# Altium footprint library SensorNode.PcbLib: 7 footprints
Each footprint in its own frame and in the unit in brackets; x right, y up, seen from the top. Pads: shape width x height; smd on the part's side, far side on the other; paste and mask are expansions set on the pad; w line width, h text height; cw(c..) or ccw(c..) is an arc to the next point about the centre after c.
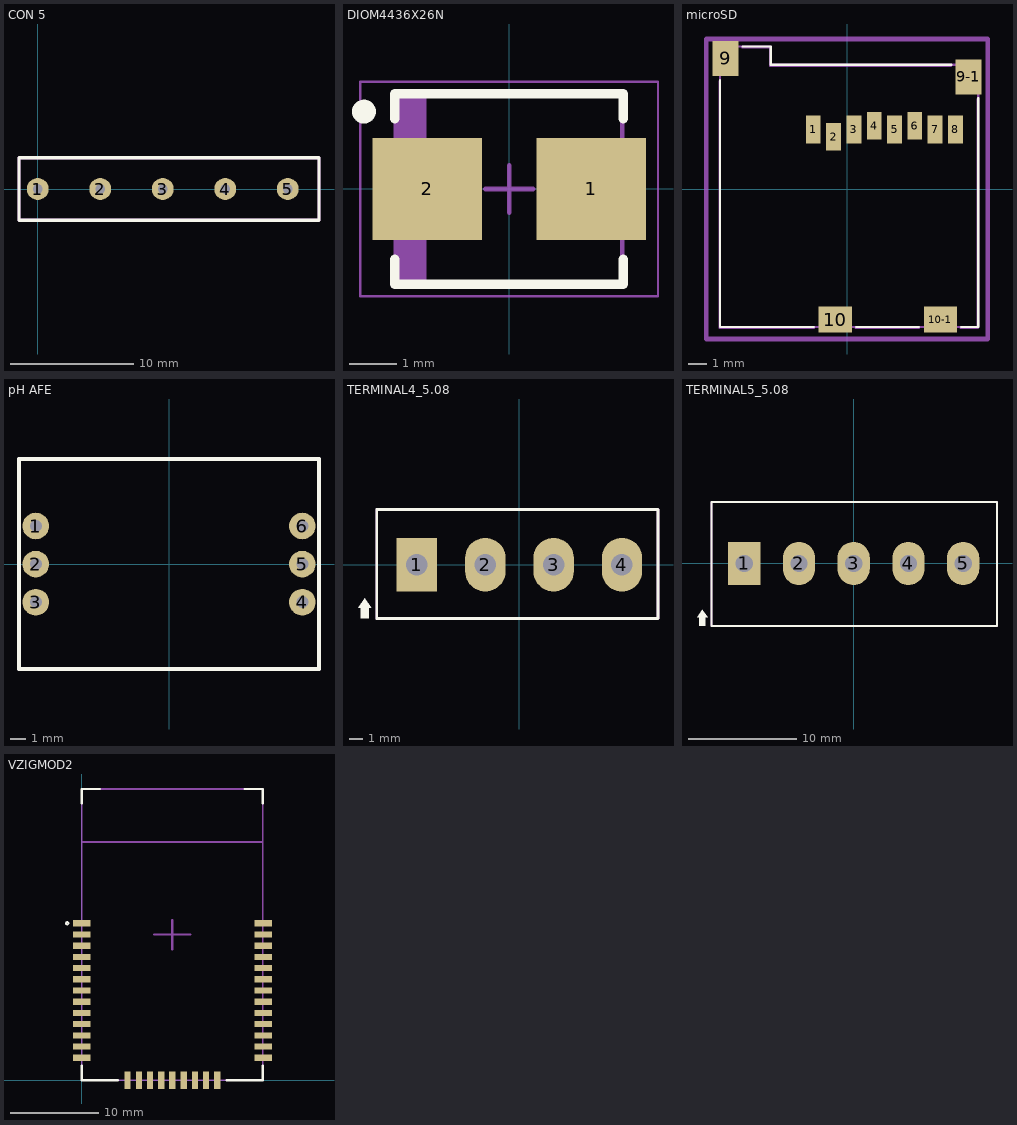
[diagram p0: the footprints below, top view; thin cyan lines are the x and y axes]

## CON 5 [mil]
pads (5):
  round 70 hole 31.5: 1(0,0) 2(200,0) 3(400,0) 4(600,0) 5(800,0)
Top Overlay:
  lines w10: -60,-100 900,-100 900,100 -60,100 -60,-100
Mechanical 29:
  lines w10: -60,-100 900,-100 900,100 -60,100 -60,-100
  text ".Designator" at 180,40 h39.37

## DIOM4436X26N [mm] "Molded Diode, 2-Leads, Body 4.40x3.62mm, IPC Medium Density"
height 2.61
pads (2):
  rect 2.3x2.15 smd: 1(1.725,0) 2(-1.725,0)
Top Overlay:
  circle w0.25: c-3.05,1.625 r0.125
  lines w0.2: -2.4,-1.475 -2.4,-2 2.4,-2 2.4,-1.475 ; -2.4,1.475 -2.4,2 2.4,2 2.4,1.475
Mechanical 13:
  rectangle: -2.375,-1.97 -1.736,1.97
  lines w0.1: -2.375,-1.97 2.375,-1.97 2.375,1.97 -2.375,1.97 -2.375,-1.97
Mechanical 15:
  lines w0.05: -3.125,-2.25 -3.125,2.25 3.125,2.25 3.125,-2.25 -3.125,-2.25
  lines w0.1: -0.5,0 0.5,0 ; 0,-0.5 0,0.5
Mechanical 29:
  lines w0.1: -2.375,-1.97 -2.375,1.97 2.375,1.97 2.375,-1.97 -2.375,-1.97
  text "'.Designator'" at -1.229,-0.368 h0.76
3D body "DIOM4436X26N.step": height 2.61, standoff 0, extent -2.595,-1.97 2.595,1.97

## microSD [mm]
pads (12):
  rect 0.8x1.5 smd: 1(-1.825,3.225) 2(-0.725,2.825) 3(0.375,3.225) 4(1.475,3.425) 5(2.575,3.225) 6(3.675,3.425) 7(4.775,3.225) 8(5.875,3.225)
  rect 1.4x1.9 smd: 9(-6.575,7.075) 9-1(6.575,6.075)
  rect 1.8x1.4 smd: 10(-0.635,-7.075) 10-1(5.065,-7.075)
Top Overlay:
  lines w0.127: -6.885,5.885 -6.885,-7.475 -1.785,-7.475 ; -5.645,7.725 -4.125,7.725 -4.125,6.725 5.645,6.725 ; 0.505,-7.475 3.905,-7.475 ; 6.175,-7.475 7.115,-7.475 7.115,4.915
Mechanical 1:
  lines w0.127: 7.075,6.725 -4.125,6.725 -4.125,7.725 -6.885,7.725 -6.885,-7.475 7.115,-7.475 7.115,6.725
Mechanical 16:
  lines w0.127: -6.91,5.836 -6.91,-7.524 -1.81,-7.524 ; -5.67,7.676 -4.15,7.676 -4.15,6.676 5.62,6.676 ; 0.48,-7.524 3.88,-7.524 ; 6.15,-7.524 7.09,-7.524 7.09,4.866
Mechanical 29:
  lines w0.254: -7.62,-8.128 -7.62,8.128 7.62,8.128 7.62,-8.128 -7.62,-8.128
  text ".Designator" at -5.08,-1.016 h1
3D body "User Library-693071010811.STEP": height 1.83, standoff -0.07, extent -6.81,-7.511 7.19,7.689

## pH AFE [mil]
pads (6):
  round 70 hole 31.5: 1(-350,100) 2(-350,0) 3(-350,-100) 4(350,-100) 5(350,0) 6(350,100)
Top Overlay:
  lines w10: -393.7,-275.59 -393.7,275.59 393.7,275.59 393.7,-275.59 -393.7,-275.59
Mechanical 29:
  lines w10: -394,-275 393.4,-275 393.4,276.18 -394,276.18 -394,-275
  text ".Designator" at -226,-35 h39.37
3D body: height 78.74, standoff 0, extent -394,-275 393.4,276.18

## TERMINAL4_5.08 [mm]
pads (4):
  rect 3x4 hole 1.6: 1(-7.62,0)
  oval 3x4 hole 1.6: 2(-2.54,0) 3(2.54,0) 4(7.62,0)
Top Overlay:
  rectangle: -11.8,-4 -11.2,-3.2
  region: -12,-3.2 -11,-3.2 -11.5,-2.5
  lines w0.203: -10.6,-4 -10.6,4.1 10.3,4.1 10.3,-4 -10.6,-4
Mechanical 29:
  lines w0.203: -10.6,-4 -10.6,4.1 10.3,4.1 10.3,-4 -10.6,-4
  text "'.Designator'" at -5.6,-2.5 h1.52
3D body "17430.stp": height 10, standoff -3.5, extent -10.645,-4 10.245,4.1

## TERMINAL5_5.08 [mm]
pads (5):
  rect 3x4 hole 1.6: 1(-10.16,0)
  oval 3x4 hole 1.6: 2(-5.08,0) 3(0,0) 4(5.08,0) 5(10.16,0)
Top Overlay:
  rectangle: -14.34,-5.8 -13.74,-5
  region: -14.54,-5 -13.54,-5 -14.04,-4.3
  lines w0.203: -13.2,-5.8 -13.2,5.7 13.3,5.7 13.3,-5.8 -13.2,-5.8
Mechanical 29:
  lines w0.203: -13.2,-5.8 -13.2,5.7 13.3,5.7 13.3,-5.8 -13.2,-5.8
  text "'.Designator'" at -8.14,-2.5 h1.52
3D body "37833.stp": height 18, standoff -3.8, extent -13.29,-5.9 13.29,5.72

## VZIGMOD2 [mm]
pads (35):
  rect 2x0.7 smd: 1(0,17.78) 2(0,16.51) 3(0,15.24) 4(0,13.97) 5(0,12.7) 6(0,11.43) 7(0,10.16) 8(0,8.89) 9(0,7.62) 10(0,6.35) 11(0,5.08) 12(0,3.81) 13(0,2.54) 23(20.56,2.54) 24(20.56,3.81) 25(20.56,5.08) 26(20.56,6.35) 27(20.56,7.62) 28(20.56,8.89) 29(20.56,10.16) 30(20.56,11.43) 31(20.56,12.7) 32(20.56,13.97) 33(20.56,15.24) 34(20.56,16.51) 35(20.56,17.78)
  rect 0.7x2 smd: 14(5.2,0) 15(6.47,0) 16(7.74,0) 17(9.01,0) 18(10.25,0) 19(11.55,0) 20(12.82,0) 21(14.09,0) 22(15.36,0)
Top Overlay:
  circle w0.203: c-1.651,17.78 r0.137
  lines w0.254: 0,1.65 0,0 4.1,0 ; 0,31.35 0,33 2.05,33 ; 16.4,0 20.5,0 20.5,1.65 ; 18.45,33 20.5,33 20.5,31.35
Mechanical 1:
  lines w0.203: 0,27 0,33 20.5,33 20.5,27 0,27
Mechanical 15:
  lines w0.203: 0,0 20.5,0 20.5,33 0,33 0,0
  lines w0.254: 8.2,16.5 12.3,16.5 ; 10.25,14.85 10.25,18.15
Mechanical 16:
  lines w0.203: 0,0 0,33 20.5,33 20.5,0 0,0
Mechanical 29:
  text "'.Designator'" at 9.896,16.254 h0.8
3D body "VZIGMOD2_PCB.step": height 2.05, standoff 0.01, extent 0,0 20.5,33